# Altium footprint library alexsb.PCBLIB: 444 footprints (part 8 of 28)
Each footprint in its own frame and in the unit in brackets; x right, y up, seen from the top. Pads: shape width x height; smd on the part's side, far side on the other; paste and mask are expansions set on the pad; w line width, h text height; cw(c..) or ccw(c..) is an arc to the next point about the centre after c.
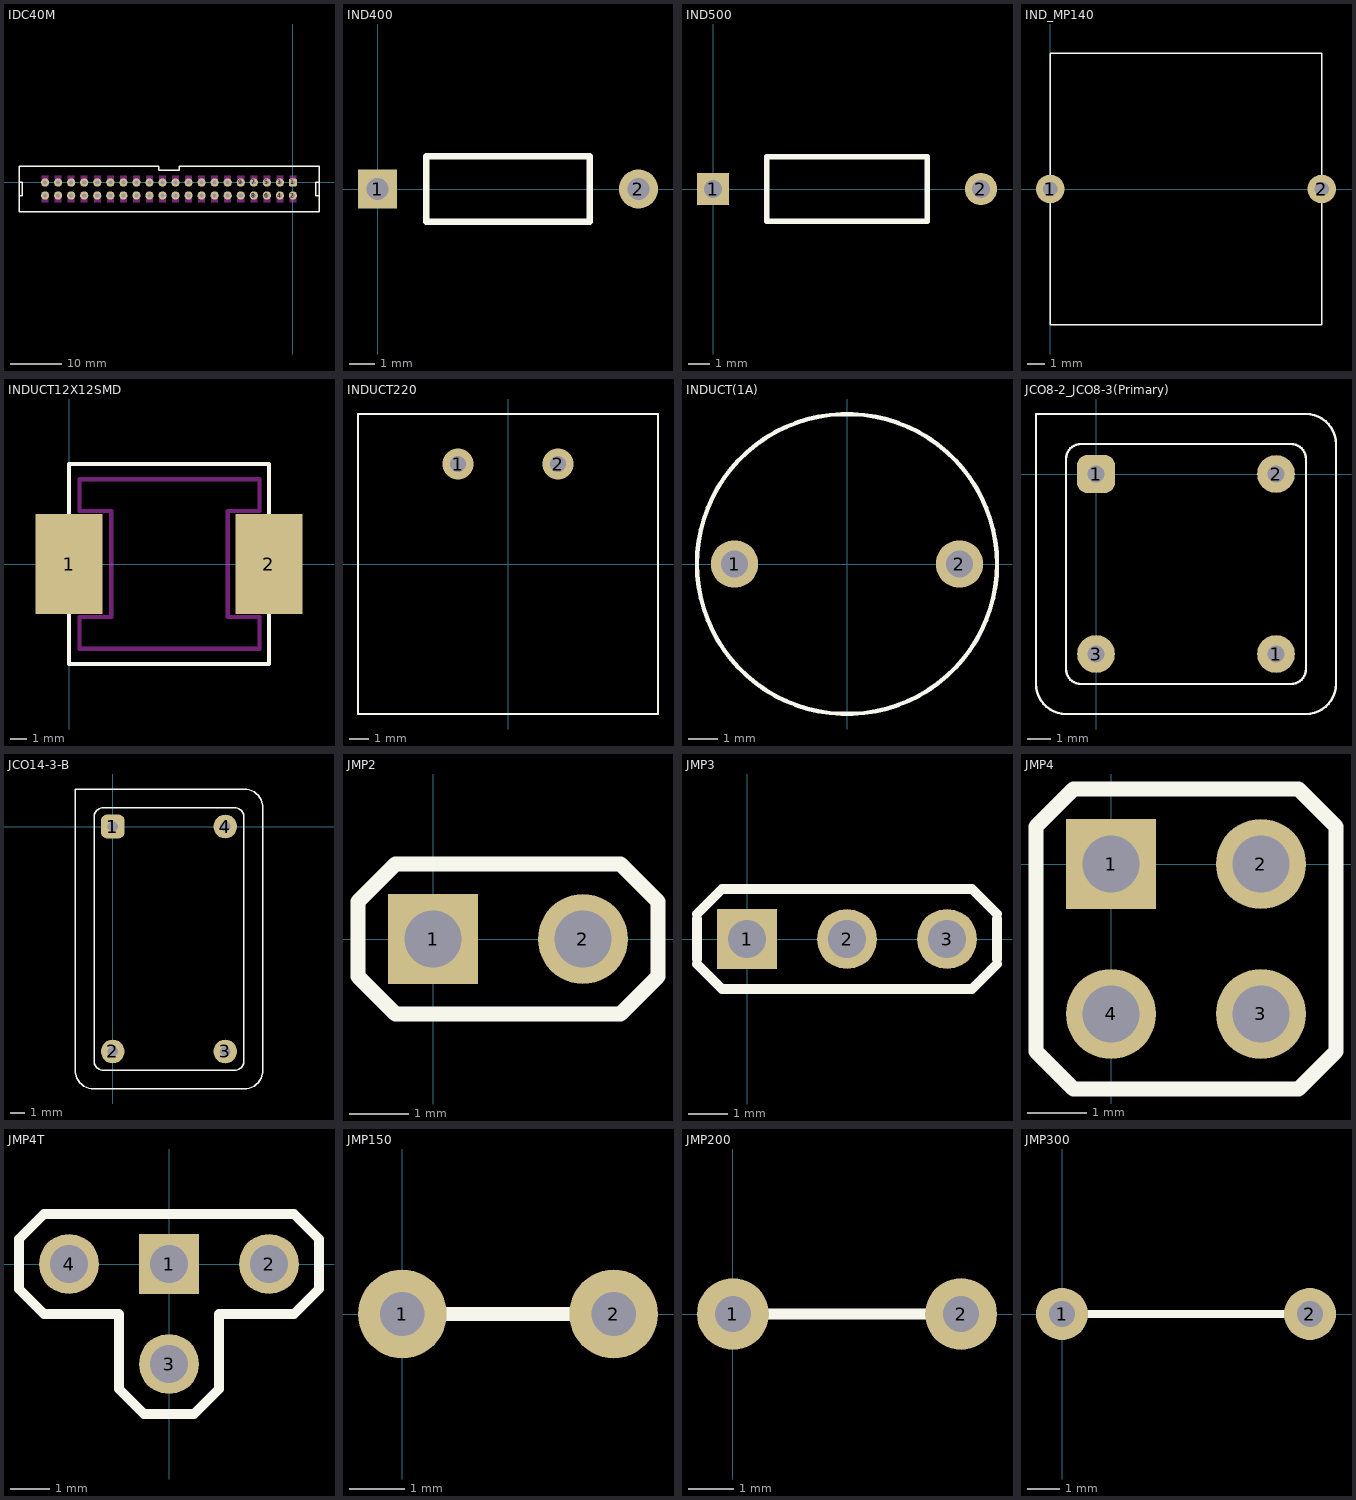
[diagram p7: the footprints below, top view; thin cyan lines are the x and y axes]

## IDC40M [mm]
pads (40):
  rrect50% 1.6x1.6 hole 0.8: 1(0,0)
  round 1.6 hole 0.8: 2(0,-2.54) 3(-2.54,0) 4(-2.54,-2.54) 5(-5.08,0) 6(-5.08,-2.54) 7(-7.62,0) 8(-7.62,-2.54) 9(-10.16,0) 10(-10.16,-2.54) 11(-12.7,0) 12(-12.7,-2.54) 13(-15.24,0) 14(-15.24,-2.54) 15(-17.78,0) 16(-17.78,-2.54) 17(-20.32,0) 18(-20.32,-2.54) 19(-22.86,0) 20(-22.86,-2.54) 21(-25.4,0) 22(-25.4,-2.54) 23(-27.94,0) 24(-27.94,-2.54) 25(-30.48,0) 26(-30.48,-2.54) 27(-33.02,0) 28(-33.02,-2.54) 29(-35.56,0) 30(-35.56,-2.54) 31(-38.1,0) 32(-38.1,-2.54) 33(-40.64,0) 34(-40.64,-2.54) 35(-43.18,0) 36(-43.18,-2.54) 37(-45.72,0) 38(-45.72,-2.54) 39(-48.26,0) 40(-48.26,-2.54)
Top Layer keep-out:
  region: -0.635,-1.905 -0.635,-3.81 0.635,-3.81 0.635,-1.905
  region: -0.635,1.27 -0.635,-0.635 0.635,-0.635 0.635,1.27
  region: -10.795,-1.905 -10.795,-3.81 -9.525,-3.81 -9.525,-1.905
  region: -8.255,-1.905 -8.255,-3.81 -6.985,-3.81 -6.985,-1.905
  region: -5.715,-1.905 -5.715,-3.81 -4.445,-3.81 -4.445,-1.905
  region: -3.175,-1.905 -3.175,-3.81 -1.905,-3.81 -1.905,-1.905
  region: -10.795,1.27 -10.795,-0.635 -9.525,-0.635 -9.525,1.27
  region: -8.255,1.27 -8.255,-0.635 -6.985,-0.635 -6.985,1.27
  region: -5.715,1.27 -5.715,-0.635 -4.445,-0.635 -4.445,1.27
  region: -3.175,1.27 -3.175,-0.635 -1.905,-0.635 -1.905,1.27
  region: -20.955,-1.905 -20.955,-3.81 -19.685,-3.81 -19.685,-1.905
  region: -18.415,-1.905 -18.415,-3.81 -17.145,-3.81 -17.145,-1.905
  region: -15.875,-1.905 -15.875,-3.81 -14.605,-3.81 -14.605,-1.905
  region: -13.335,-1.905 -13.335,-3.81 -12.065,-3.81 -12.065,-1.905
  region: -13.335,1.27 -13.335,-0.635 -12.065,-0.635 -12.065,1.27
  region: -15.875,1.27 -15.875,-0.635 -14.605,-0.635 -14.605,1.27
  region: -18.415,1.27 -18.415,-0.635 -17.145,-0.635 -17.145,1.27
  region: -20.955,1.27 -20.955,-0.635 -19.685,-0.635 -19.685,1.27
  region: -23.495,1.27 -23.495,-0.635 -22.225,-0.635 -22.225,1.27
  region: -23.495,-1.905 -23.495,-3.81 -22.225,-3.81 -22.225,-1.905
  region: -26.035,-1.905 -26.035,-3.81 -24.765,-3.81 -24.765,-1.905
  region: -26.035,1.27 -26.035,-0.635 -24.765,-0.635 -24.765,1.27
  region: -28.575,1.27 -28.575,-0.635 -27.94,-0.635 -27.305,-0.635 -27.305,1.27
  region: -48.895,-1.905 -48.895,-3.81 -47.625,-3.81 -47.625,-1.905
  region: -46.355,-1.905 -46.355,-3.81 -45.085,-3.81 -45.085,-1.905
  region: -43.815,-1.905 -43.815,-3.81 -42.545,-3.81 -42.545,-1.905
  region: -41.275,-1.905 -41.275,-3.81 -40.005,-3.81 -40.005,-1.905
  region: -38.735,-1.905 -38.735,-3.81 -37.465,-3.81 -37.465,-1.905
  region: -36.195,-1.905 -36.195,-3.81 -34.925,-3.81 -34.925,-1.905
  region: -33.655,-1.905 -33.655,-3.81 -32.385,-3.81 -32.385,-1.905
  region: -31.115,-1.905 -31.115,-3.81 -29.845,-3.81 -29.845,-1.905
  region: -28.575,-1.905 -28.575,-3.81 -27.305,-3.81 -27.305,-1.905
  region: -28.575,1.27 -28.575,-0.635 -27.305,-0.635 -27.305,1.27
  region: -31.115,1.27 -31.115,-0.635 -29.845,-0.635 -29.845,1.27
  region: -33.655,1.27 -33.655,-0.635 -32.385,-0.635 -32.385,1.27
  region: -36.195,1.27 -36.195,-0.635 -34.925,-0.635 -34.925,1.27
  region: -38.735,1.27 -38.735,-0.635 -37.465,-0.635 -37.465,1.27
  region: -41.275,1.27 -41.275,-0.635 -40.005,-0.635 -40.005,1.27
  region: -43.815,1.27 -43.815,-0.635 -42.545,-0.635 -42.545,1.27
  region: -46.355,1.27 -46.355,-0.635 -45.085,-0.635 -45.085,1.27
  region: -48.895,1.27 -48.895,-0.635 -47.625,-0.635 -47.625,1.27
Top Overlay:
  lines w0.254: -53.34,-2.54 -52.705,-2.54 -52.705,0 -53.34,0 ; 5.08,-2.54 4.445,-2.54 4.445,0 5.08,0 ; -53.34,-5.715 -53.34,3.175 -26.162,3.175 -26.162,2.413 -22.098,2.413 -22.098,3.175 5.08,3.175 5.08,-5.715 -53.34,-5.715

## IND400 [mil]
pads (2):
  rect 60x60 hole 34: 1(0,0)
  round 60 hole 34: 2(400,0)
Top Overlay:
  lines w10: 75,-50 325,-50 325,50 75,50 75,-50

## IND500 [mil]
pads (2):
  rect 60x60 hole 34: 1(0,0)
  round 60 hole 34: 2(500,0)
Top Overlay:
  lines w10: 100,-60 400,-60 400,60 100,60 100,-60

## IND_MP140 [mm]
pads (2):
  round 1.6 hole 0.8: 1(0,0) 2(15.24,0)
Top Overlay:
  lines w0.1: 0,-7.62 0,0 0,7.62 15.24,7.62 15.24,-7.62 0,-7.62

## INDUCT12X12SMD [mm]
pads (2):
  rect 4x6 smd: 1(0,0) 2(12,0)
Top Layer keep-out:
  lines w0.254: 0.635,-5.08 11.43,-5.08 11.43,-3.175 9.525,-3.175 9.525,3.175 11.43,3.175 11.43,5.08 0.635,5.08 0.635,3.175 2.54,3.175 2.54,-3.175 0.635,-3.175 0.635,-5.08
Top Overlay:
  lines w0.254: 0,-6 12,-6 12,6 0,6 0,-6

## INDUCT220 [mm]
pads (2):
  round 1.6 hole 0.8: 1(-2.54,5.08) 2(2.54,5.08)
Top Overlay:
  lines w0.1: -7.62,-7.62 -7.62,7.62 7.62,7.62 7.62,-7.62 -7.62,-7.62

## INDUCT(1A) [mm]
pads (2):
  round 1.6 hole 0.9: 1(-3.81,0) 2(3.81,0)
Top Overlay:
  circle w0.15: c0,0 r5.08

## JCO8-2_JCO8-3(Primary) [mm]
pads (4):
  rrect50% 1.6x1.6 hole 0.7: 1(0,0)
  round 1.6 hole 0.7: 1(7.62,-7.62) 2(7.62,0) 3(0,-7.62)
Top Overlay:
  lines w0.1: -2.54,-8.89 ccw(c-1.27,-8.89) -1.27,-10.16 8.89,-10.16 ccw(c8.89,-8.89) 10.16,-8.89 10.16,1.27 ccw(c8.89,1.27) 8.89,2.54 -2.54,2.54 -2.54,-8.89 ; -1.27,-8.255 ccw(c-0.635,-8.255) -0.635,-8.89 8.255,-8.89 ccw(c8.255,-8.255) 8.89,-8.255 8.89,0.635 ccw(c8.255,0.635) 8.255,1.27 -0.635,1.27 ccw(c-0.635,0.635) -1.27,0.635 -1.27,-8.255

## JCO14-3-B [mm]
pads (4):
  rrect50% 1.6x1.6 hole 0.7: 1(0,0)
  round 1.6 hole 0.7: 2(0,-15.24) 3(7.62,-15.24) 4(7.62,0)
Top Overlay:
  lines w0.1: -2.54,-16.51 ccw(c-1.27,-16.51) -1.27,-17.78 8.89,-17.78 ccw(c8.89,-16.51) 10.16,-16.51 10.16,1.27 ccw(c8.89,1.27) 8.89,2.54 -2.54,2.54 -2.54,-16.51 ; -1.27,-15.875 ccw(c-0.635,-15.875) -0.635,-16.51 8.255,-16.51 ccw(c8.255,-15.875) 8.89,-15.875 8.89,0.635 ccw(c8.255,0.635) 8.255,1.27 -0.635,1.27 ccw(c-0.635,0.635) -1.27,0.635 -1.27,-15.875

## JMP2 [mil]
pads (2):
  rect 60x60 hole 38: 1(0,0)
  round 60 hole 38: 2(100,0)
Top Overlay:
  lines w10: -50,-25 -25,-50 125,-50 150,-25 150,25 125,50 -25,50 -50,25 -50,-25

## JMP3 [mil]
pads (3):
  rect 60x60 hole 38: 1(0,0)
  round 60 hole 38: 2(100,0) 3(200,0)
Top Overlay:
  lines w10: -50,-25 -25,-50 225,-50 250,-25 ; -50,-20 -50,20 ; -50,25 -25,50 225,50 250,25 ; 250,-20 250,20

## JMP4 [mil]
pads (4):
  rect 60x60 hole 38: 1(0,0)
  round 60 hole 38: 2(100,0) 3(100,-100) 4(0,-100)
Top Overlay:
  lines w10: -50,-125 -25,-150 125,-150 150,-125 150,25 125,50 -25,50 -50,25 -50,-125

## JMP4T [mil]
pads (4):
  rect 60x60 hole 38: 1(0,0)
  round 60 hole 38: 2(100,0) 3(0,-100) 4(-100,0)
Top Overlay:
  lines w10: -150,-25 -125,-50 -75,-50 -50,-50 -50,-125 -25,-150 25,-150 50,-125 50,-50 125,-50 150,-25 150,0 150,25 125,50 -125,50 -150,25 -150,-25

## JMP150 [mm]
pads (2):
  round 1.6 hole 0.8: 1(0,0) 2(3.81,0)
Top Overlay:
  lines w0.25: 0,0 3.81,0

## JMP200 [mm]
pads (2):
  round 1.6 hole 0.8: 1(0,0) 2(5.08,0)
Top Overlay:
  lines w0.25: 0,0 5.08,0

## JMP300 [mm]
pads (2):
  round 1.6 hole 0.8: 1(0,0) 2(7.62,0)
Top Overlay:
  lines w0.25: 0,0 7.62,0